# Altium footprint library NG_Components.PcbLib: 24 footprints (part 1 of 2)
Each footprint in its own frame and in the unit in brackets; x right, y up, seen from the top. Pads: shape width x height; smd on the part's side, far side on the other; paste and mask are expansions set on the pad; w line width, h text height; cw(c..) or ccw(c..) is an arc to the next point about the centre after c.
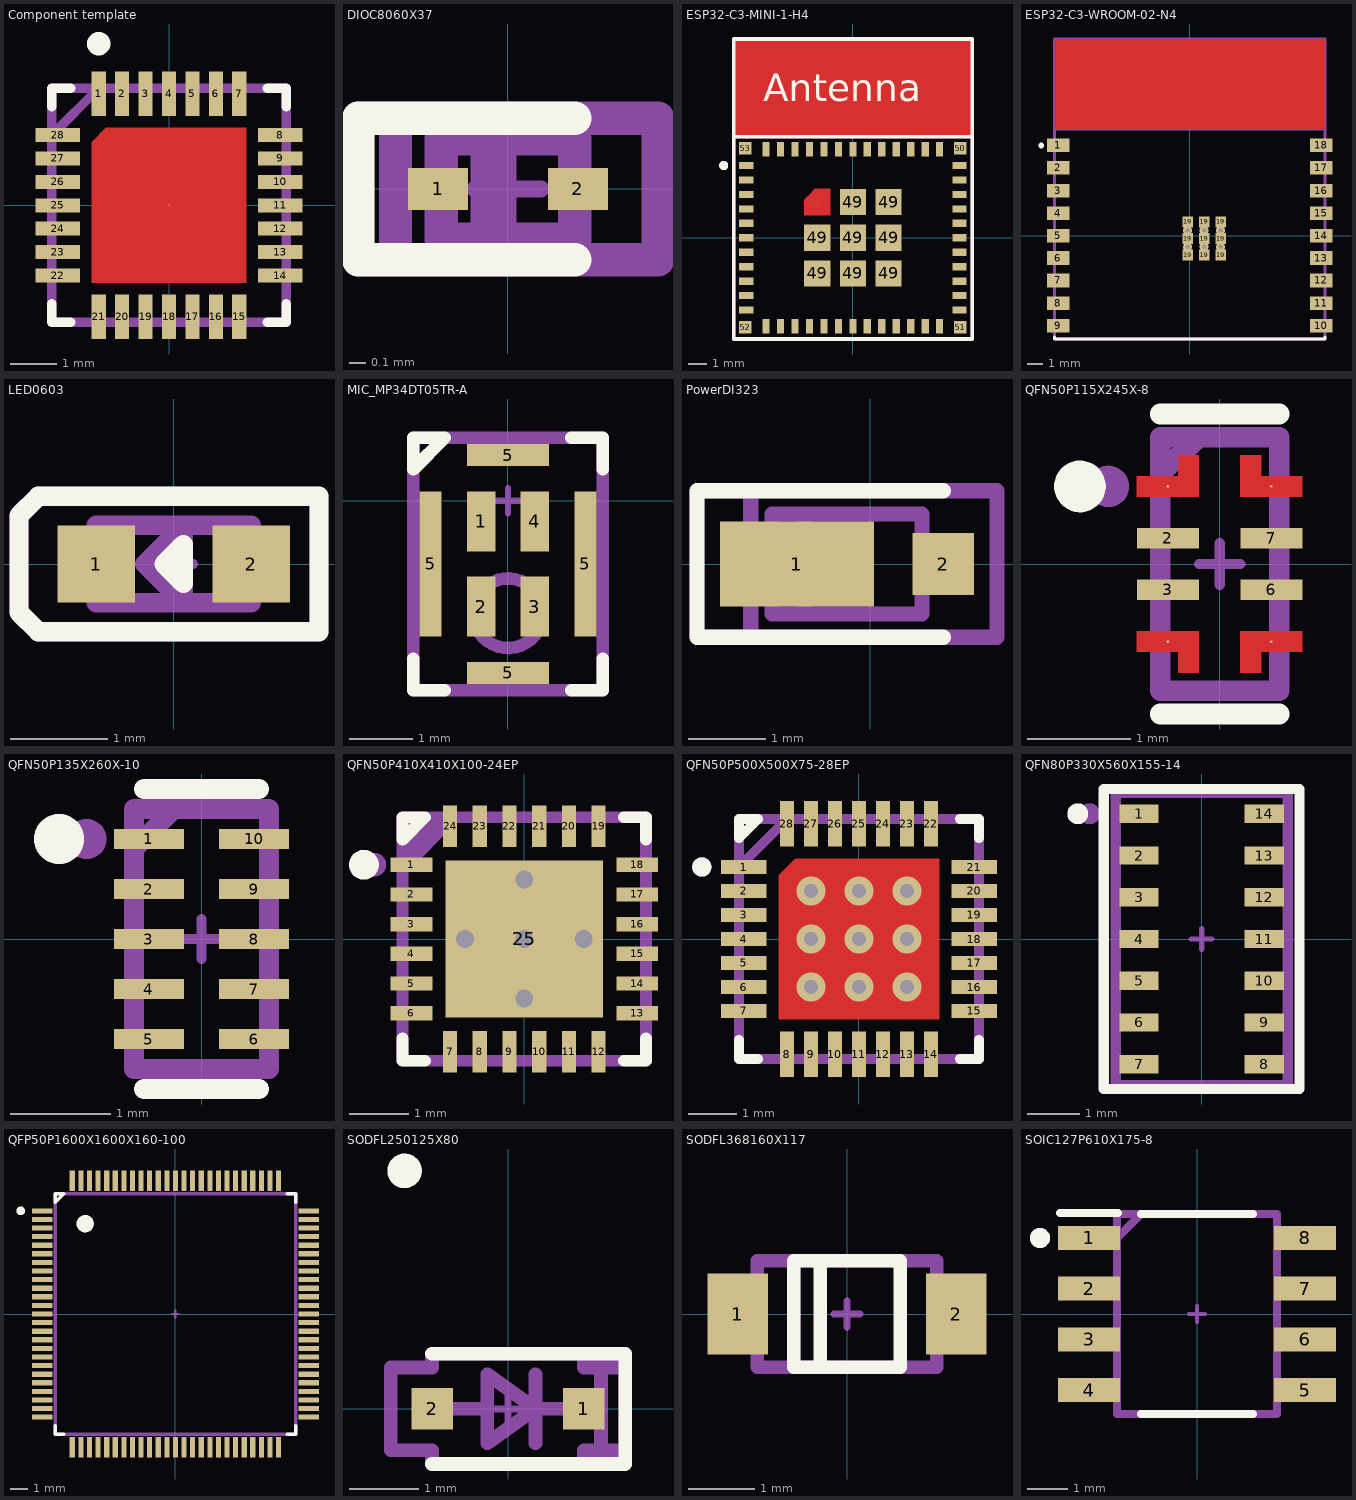
[diagram p0: the footprints below, top view; thin cyan lines are the x and y axes]

## Component template [mm] "Generic description"
height 0.8
pads (29):
  rect 0.3x0.95 smd: 1(-1.5,2.38) 2(-1,2.38) 3(-0.5,2.38) 4(0,2.38) 5(0.5,2.38) 6(1,2.38) 7(1.5,2.38) 15(1.5,-2.38) 16(1,-2.38) 17(0.5,-2.38) 18(0,-2.38) 19(-0.5,-2.38) 20(-1,-2.38) 21(-1.5,-2.38)
  rect 0.95x0.3 smd: 8(2.38,1.5) 9(2.38,1) 10(2.38,0.5) 11(2.38,0) 12(2.38,-0.5) 13(2.38,-1) 14(2.38,-1.5) 22(-2.38,-1.5) 23(-2.38,-1) 24(-2.38,-0.5) 25(-2.38,0) 26(-2.38,0.5) 27(-2.38,1) 28(-2.38,1.5)
  round 0.025 smd: 29(0,0)
Top Layer:
  region: -1.65,-1.65 -1.65,1.35 -1.35,1.65 1.65,1.65 1.65,-1.65
Top Overlay:
  circle w0.3: c-1.5,3.45 r0.1
  lines w0.2: -2.5,-2.1 -2.5,-2.5 -2.1,-2.5 ; -2.5,2.1 -2.5,2.5 -2.1,2.5 ; 2.1,-2.5 2.5,-2.5 2.5,-2.1 ; 2.1,2.5 2.5,2.5 2.5,2.1
Mechanical 4:
  text ".Designator" at 0.15,0.417 h0.8
Top Component Center:
  lines w0.1: -0.2,0 0.2,0 ; 0,-0.2 0,0.2
Top Component Outline:
  lines w0.2: -2.5,1.5 -1.5,2.5 ; -2.5,-2.5 2.5,-2.5 2.5,2.5 -2.5,2.5 -2.5,-2.5
3D body "21-0140L_T2855-8_MXM.step": height 0.81, standoff 0, extent -2.553,-2.553 2.553,2.553

## DIOC8060X37 [mm] "SOD-923"
height 0.8
pads (2):
  rect 0.36x0.25 smd mask+0.05: 1(-0.42,0) 2(0.42,0)
Top Overlay:
  lines w0.2: 0.4,-0.425 -0.4,-0.425 -0.9,-0.425 -0.9,0.425 -0.4,0.425 0.4,0.425
Mechanical 4:
  text ".Designator" at 0.15,0.417 h0.8
Top Component Center:
  lines w0.1: -0.2,0 0.2,0 ; 0,-0.2 0,0.2
Top Component Outline:
  lines w0.2: -0.125,-0.3 -0.125,0.3 ; -0.4,-0.3 -0.4,0.3 0.4,0.3 0.4,-0.3 -0.4,-0.3
Top Assembly:
  lines w0.2: -0.675,-0.425 -0.675,0.425 ; -0.9,-0.425 0,-0.425 0.9,-0.425 0.9,0.425 0,0.425 -0.9,0.425 -0.9,-0.425
  text ".Comment" at -3.639,-0.508 h1.02
3D body "ESD9B5.0ST5G.step": height 0.4, standoff 0, extent -0.5,-0.3 0.5,0.3

## ESP32-C3-MINI-1-H4 [mm] "Footprint for ESP32-C3-MINI-1-H4 modem"
height 2.55
pads (61):
  rect 0.8x0.4 smd mask+0.05: 1(-5.9,4) 2(-5.9,3.2) 3(-5.9,2.4) 4(-5.9,1.6) 5(-5.9,0.8) 6(-5.9,0) 7(-5.9,-0.8) 8(-5.9,-1.6) 9(-5.9,-2.4) 10(-5.9,-3.2) 11(-5.9,-4) 25(5.9,-4) 26(5.9,-3.2) 27(5.9,-2.4) 28(5.9,-1.6) 29(5.9,-0.8) 30(5.9,0) 31(5.9,0.8) 32(5.9,1.6) 33(5.9,2.4) 34(5.9,3.2) 35(5.9,4)
  rect 0.4x0.8 smd mask+0.05: 12(-4.8,-4.9) 13(-4,-4.9) 14(-3.2,-4.9) 15(-2.4,-4.9) 16(-1.6,-4.9) 17(-0.8,-4.9) 18(0,-4.9) 19(0.8,-4.9) 20(1.6,-4.9) 21(2.4,-4.9) 22(3.2,-4.9) 23(4,-4.9) 24(4.8,-4.9) 36(4.8,4.9) 37(4,4.9) 38(3.2,4.9) 39(2.4,4.9) 40(1.6,4.9) 41(0.8,4.9) 42(0,4.9) 43(-0.8,4.9) 44(-1.6,4.9) 45(-2.4,4.9) 46(-3.2,4.9) 47(-4,4.9) 48(-4.8,4.9)
  rect 1.45x1.45 smd mask+0.05: 49(-1.975,-1.975) 49(-1.975,0) 49(0,-1.975) 49(0,0) 49(0,1.975) 49(1.975,-1.975) 49(1.975,0) 49(1.975,1.975)
  round 0.025 smd mask+0.05: 49(-1.975,1.975)
  rect 0.7x0.7 smd mask+0.05: 50(5.95,4.95) 51(5.95,-4.95) 52(-5.95,-4.95) 53(-5.95,4.95)
Top Layer:
  pour cut-out: -6.6,5.6 6.6,5.6 6.6,11 -6.6,11
  region: -2.7,1.25 -2.7,2.1 -2.4,2.4 -2.1,2.7 -1.25,2.7 -1.25,1.25
Mid-Layer 1:
  pour cut-out: -6.6,5.6 6.6,5.6 6.6,11 -6.6,11
Mid-Layer 2:
  pour cut-out: -6.6,5.6 6.6,5.6 6.6,11 -6.6,11
Bottom Layer:
  pour cut-out: -6.6,5.6 6.6,5.6 6.6,11 -6.6,11
Top Overlay:
  circle w0.3: c-7.15,4 r0.1
  lines w0.2: -6.6,5.6 6.6,5.6 ; -6.6,5.6 -6.6,-5.6 6.6,-5.6 6.6,5.6 ; -6.6,5.6 -6.6,11 6.6,11 6.6,5.6
  text "Antenna" at -4.946,7.554 h1.52
Mechanical 4:
  text ".Designator" at 0.15,0.417 h0.8
Top Component Center:
  lines w0.1: -0.2,0 0.2,0 ; 0,-0.2 0,0.2
Top Component Outline:
  lines w0.2: -6.6,5.6 6.6,5.6 ; -6.6,-5.6 6.6,-5.6 6.6,11 -6.6,11 -6.6,-5.6
Top Assembly:
  lines w0.2: -6.6,5.6 6.6,5.6 ; -6.6,-5.6 6.6,-5.6 6.6,11 -6.6,11 -6.6,-5.6
  text "Antenna" at -3.376,7.617 h1.02
  text ".Comment" at -3.639,-0.508 h1.02
3D body "ESP32-C3-MINI-1 3D Model.STEP": height 2.4, standoff 0, extent -6.6,-5.6 6.6,11

## ESP32-C3-WROOM-02-N4 [mm] "Footprint for ESP32-C3-WROOM-02-N4 modem"
height 2.55
pads (27):
  rect 1.5x0.9 smd mask+0.05: 1(-8.75,6) 2(-8.75,4.5) 3(-8.75,3) 4(-8.75,1.5) 5(-8.75,0) 6(-8.75,-1.5) 7(-8.75,-3) 8(-8.75,-4.5) 9(-8.75,-6) 10(8.75,-6) 11(8.75,-4.5) 12(8.75,-3) 13(8.75,-1.5) 14(8.75,0) 15(8.75,1.5) 16(8.75,3) 17(8.75,4.5) 18(8.75,6)
  rect 0.7x0.7 smd mask+0.05: 19(-0.14,-1.3) 19(-0.14,-0.2) 19(-0.14,0.9) 19(0.96,-1.3) 19(0.96,-0.2) 19(0.96,0.9) 19(2.06,-1.3) 19(2.06,-0.2) 19(2.06,0.9)
via 0.96,0.35 diameter 0.6 hole 0.3
via 0.96,-0.75 diameter 0.6 hole 0.3
via 2.06,-0.75 diameter 0.6 hole 0.3
via -0.14,-0.75 diameter 0.6 hole 0.3
via -0.14,0.35 diameter 0.6 hole 0.3
via 2.06,0.35 diameter 0.6 hole 0.3
Top Layer:
  pour cut-out: -9,7.1 9,7.1 9,13.1 -9,13.1
Mid-Layer 1:
  pour cut-out: -9,7.1 9,7.1 9,13.1 -9,13.1
Mid-Layer 2:
  pour cut-out: -9,7.1 9,7.1 9,13.1 -9,13.1
Bottom Layer:
  pour cut-out: -9,7.1 9,7.1 9,13.1 -9,13.1
Top Overlay:
  circle w0.2: c-9.9,6 r0.1
  lines w0.2: -9,-6.75 -9,-6.9 9,-6.9 9,-6.75
Mechanical 4:
  text ".Designator" at 0.15,0.417 h0.8
Top Component Center:
  lines w0.1: -0.2,0 0.2,0 ; 0,-0.2 0,0.2
Top Component Outline:
  lines w0.2: -9,7.1 9,7.1 ; -9,-6.9 9,-6.9 9,13.1 -9,13.1 -9,-6.9
Top Assembly:
  lines w0.2: -9,7.1 9,7.1 ; -9,-6.9 9,-6.9 9,13.1 -9,13.1 -9,-6.9
  text "Antenna" at -3.126,9.117 h1.02
  text ".Comment" at -3.639,-0.508 h1.02
3D body "ESP32-C3-WROOM-02-N4.step": height 3.35, standoff 0, extent -9,-6.9 9,13.1

## LED0603 [mm] "0603 Footprint for Light Emitting diodes"
height 0.8
pads (2):
  rect 0.8x0.8 smd mask+0.05: 1(-0.8,0) 2(0.8,0)
Top Overlay:
  lines w0.2: -1.6,-0.5 -1.4,-0.7 1.5,-0.7 1.5,0.7 -1.4,0.7 -1.6,0.5 -1.6,-0.5 ; -0.1,0 0.1,0.2 0.1,-0.2 -0.1,0
Mechanical 4:
  text ".Designator" at 0.15,0.417 h0.8
Top Component Center:
  lines w0.1: -0.2,0 0.2,0 ; 0,-0.2 0,0.2
Top Component Outline:
  lines w0.2: -0.8,-0.4 -0.8,-0.2 ccw(c-0.8,0) -0.8,0.2 -0.8,0.4 0.8,0.4 0.8,0.2 ccw(c0.8,0) 0.8,-0.2 0.8,-0.4 -0.8,-0.4 ; -0.3,0 0.1,-0.4 0.1,0.4 -0.3,0
Top Assembly:
  lines w0.2: -1.6,-0.5 -1.4,-0.7 1.5,-0.7 1.5,0.7 -1.4,0.7 -1.6,0.5 -1.6,-0.5
  text ".Comment" at -3.639,-0.508 h1.02
3D body "STP_150060xS75000 (rev1).stp": height 0.7, standoff 0, extent -0.8,-0.4 0.8,0.4

## MIC_MP34DT05TR-A [mm] "HCLGA 4LD  (3 x 4 x 1 mm)"
height 1
pads (8):
  rect 0.45x0.95 smd mask+0.05: 1(-0.425,-0.325) 2(-0.425,-1.675) 3(0.425,-1.675) 4(0.425,-0.325)
  rect 0.35x2.3 smd mask+0.05: 5(-1.225,-1) 5(1.225,-1)
  rect 1.3x0.35 smd mask+0.05: 5(0,-2.725) 5(0,0.725)
Top Overlay:
  lines w0.2: -1.5,-2.5 -1.5,-3 -1,-3 ; 1,-3 1.5,-3 1.5,-2.5 ; 1,1 1.5,1 1.5,0.5 ; -1,1 -1.5,0.5 -1.5,1 -1,1 ; -1,1 -1,1
Mechanical 4:
  text ".Designator" at 0.15,0.417 h0.8
Top Component Center:
  lines w0.1: -0.2,0 0.2,0 ; 0,-0.2 0,0.2
Top Component Outline:
  circle w0.2: c0,-1.78 r0.55
  lines w0.2: -1.5,0.5 -1,1 ; -1,1 -1,1 ; -1.5,-3 1.5,-3 1.5,1 -1.5,1 -1.5,-3 ; 1,1 1,1 ; 1.5,0.5 1.5,0.5
Top Assembly:
  lines w0.2: -1.5,0.5 -1,1 ; -1.5,-3 1.5,-3 1.5,1 -1.5,1 -1.5,-3
  text ".Comment" at -2.214,-3.933 h1.02
3D body "MP34DT05-A.stp": height 1, standoff 0, extent -1.5,-3 1.5,1

## PowerDI323 [mm] "PowerDI323"
height 0.8
pads (2):
  rect 2x1.1 smd paste-0.025 mask+0.05: 1(-0.95,0)
  rect 0.8x0.8 smd mask+0.05: 2(0.95,0)
Top Overlay:
  lines w0.2: 0.95,-0.95 -2.25,-0.95 -2.25,0.95 0.95,0.95
Mechanical 4:
  text ".Designator" at 0.15,0.417 h0.8
Top Component Center:
  lines w0.1: -0.5,0 -0.1,0 ; -0.3,-0.2 -0.3,0.2
Top Component Outline:
  lines w0.2: -0.85,-0.65 -0.85,0.65 ; -1.275,-0.65 0.675,-0.65 0.675,0.65 -1.275,0.65 -1.275,-0.65
Top Assembly:
  lines w0.2: -1.55,-0.95 -1.55,0.95 ; -2.25,-0.95 0,-0.95 1.65,-0.95 1.65,0.95 0,0.95 -2.25,0.95 -2.25,-0.95
  text ".Comment" at -3.639,-0.508 h1.02
3D body "PowerDI323_DIO.step": height 0.65, standoff 0, extent -1.55,-0.95 0.95,0.95

## QFN50P115X245X-8 [mm] "Quad Flat No-lead, 50 mm pitch, 115 mm W, 245 mm L, 8 leads"
height 0.45
pads (8):
  round 0.025 smd mask+0.05: 1(-0.5,0.75) 4(-0.5,-0.75) 5(0.5,-0.75) 8(0.5,0.75)
  rect 0.6x0.2 smd mask+0.05: 2(-0.5,0.25) 3(-0.5,-0.25) 6(0.5,-0.25) 7(0.5,0.25)
Top Layer:
  region: -0.8,0.65 -0.8,0.85 -0.4,0.85 -0.4,1.05 -0.2,1.05 -0.2,0.85 -0.2,0.65
  region: -0.8,-0.65 -0.8,-0.85 -0.4,-0.85 -0.4,-1.05 -0.2,-1.05 -0.2,-0.85 -0.2,-0.65
  region: 0.8,0.65 0.8,0.85 0.4,0.85 0.4,1.05 0.2,1.05 0.2,0.85 0.2,0.65
  region: 0.8,-0.65 0.8,-0.85 0.4,-0.85 0.4,-1.05 0.2,-1.05 0.2,-0.85 0.2,-0.65
Top Overlay:
  circle w0.3: c-1.35,0.75 r0.1
  lines w0.2: -0.575,-1.45 0.575,-1.45 ; -0.575,1.45 0.575,1.45
Mechanical 4:
  text ".Designator" at 0.15,0.417 h0.8
Top Component Center:
  lines w0.1: -0.2,0 0.2,0 ; 0,-0.2 0,0.2
Top Component Outline:
  lines w0.2: -0.575,-1.225 -0.575,1.225 0.575,1.225 0.575,-1.225 -0.575,-1.225
Top Assembly:
  circle w0.2: c-1.075,0.75 r0.1
  lines w0.2: -0.575,0.875 -0.2,1.225 ; -0.575,-1.225 0.575,-1.225 0.575,1.225 -0.575,1.225 -0.575,-1.225
  text ".Comment" at -2.214,-2.933 h1.02
3D body "ECMF02-4CMX8.stp": height 0.5, standoff -0.02, extent -0.6,-1.25 0.6,1.25

## QFN50P135X260X-10 [mm] "Quad Flat No-lead, 50 mm pitch, 135 mm W, 260 mm L, 10 leads"
height 0.5
pads (10):
  rect 0.7x0.2 smd mask+0.05: 1(-0.525,1) 2(-0.525,0.5) 3(-0.525,0) 4(-0.525,-0.5) 5(-0.525,-1) 6(0.525,-1) 7(0.525,-0.5) 8(0.525,0) 9(0.525,0.5) 10(0.525,1)
Top Overlay:
  circle w0.3: c-1.425,1 r0.1
  lines w0.2: -0.575,-1.5 0.575,-1.5 ; -0.575,1.5 0.575,1.5
Mechanical 4:
  text ".Designator" at 0.15,0.417 h0.8
Top Component Center:
  lines w0.1: -0.2,0 0.2,0 ; 0,-0.2 0,0.2
Top Component Outline:
  lines w0.2: -0.675,-1.3 0.675,-1.3 0.675,1.3 -0.675,1.3 -0.675,-1.3
Top Assembly:
  circle w0.2: c-1.15,1 r0.1
  lines w0.2: -0.675,0.9 -0.275,1.3 ; -0.675,-1.3 -0.675,1.3 0.675,1.3 0.675,-1.3 -0.675,-1.3
  text ".Comment" at -2.214,-2.933 h1.02
3D body "ECMF04-4HSWM10.stp": height 0.51, standoff 0, extent -0.698,-1.321 0.698,1.321

## QFN50P410X410X100-24EP [mm] "Generic description"
height 0.8
pads (25):
  rect 0.7x0.24 smd mask+0.05: 1(-1.9,1.25) 2(-1.9,0.75) 3(-1.9,0.25) 4(-1.9,-0.25) 5(-1.9,-0.75) 6(-1.9,-1.25) 13(1.9,-1.25) 14(1.9,-0.75) 15(1.9,-0.25) 16(1.9,0.25) 17(1.9,0.75) 18(1.9,1.25)
  rect 0.24x0.7 smd mask+0.05: 7(-1.25,-1.9) 8(-0.75,-1.9) 9(-0.25,-1.9) 10(0.25,-1.9) 11(0.75,-1.9) 12(1.25,-1.9) 19(1.25,1.9) 20(0.75,1.9) 21(0.25,1.9) 22(-0.25,1.9) 23(-0.75,1.9) 24(-1.25,1.9)
  rect 2.65x2.65 smd paste-2539.97 mask+0.05: 25(0,0)
via 0,0 diameter 0.6 hole 0.3
via 1,0 diameter 0.6 hole 0.3
via 0,1 diameter 0.6 hole 0.3
via -1,0 diameter 0.6 hole 0.3
via 0,-1 diameter 0.6 hole 0.3
Top Overlay:
  circle w0.3: c-2.7,1.25 r0.1
  lines w0.2: -2.05,-1.675 -2.05,-2.05 -1.675,-2.05 ; 1.675,-2.05 2.05,-2.05 2.05,-1.675 ; 1.675,2.05 2.05,2.05 2.05,1.675 ; -2.05,1.675 -2.05,2.05 -1.675,2.05 -2.05,1.675
Top Paste:
  region: -0.1,-0.1 -1.2,-0.1 -1.2,-1.2 -0.1,-1.2
  region: 0.1,-0.1 0.1,-1.2 1.2,-1.2 1.2,-0.1
  region: -0.1,0.1 -0.1,1.2 -1.2,1.2 -1.2,0.1
  region: 0.1,0.1 1.2,0.1 1.2,1.2 0.1,1.2
  region: 0,0 1.2,0
Mechanical 4:
  text ".Designator" at 0.15,0.417 h0.8
Top Component Center:
  lines w0.1: -0.2,0 0.2,0 ; 0,-0.2 0,0.2
Top Component Outline:
  region: -2.05,2.05 -2.05,1.05 -1.05,2.05
  lines w0.2: -2.05,-2.05 2.05,-2.05 2.05,2.05 -2.05,2.05 -2.05,-2.05
Top Assembly:
  circle w0.2: c-2.525,1.25 r0.1
  lines w0.2: -2.05,1.25 -1.25,2.05 ; -2.05,-2.05 -2.05,2.05 2.05,2.05 2.05,-2.05 -2.05,-2.05
  text ".Comment" at -2.214,-2.933 h1.02
3D body "BQ24166RGER.step": height 1, standoff 0, extent -2,-2 2,2

## QFN50P500X500X75-28EP [mm] "28 pin flat no-leads package with exposed pad"
height 0.8
pads (29):
  rect 0.95x0.3 smd paste-0.025 mask+0.05: 1(-2.4,1.5) 2(-2.4,1) 3(-2.4,0.5) 4(-2.4,0) 5(-2.4,-0.5) 6(-2.4,-1) 7(-2.4,-1.5) 15(2.4,-1.5) 16(2.4,-1) 17(2.4,-0.5) 18(2.4,0) 19(2.4,0.5) 20(2.4,1) 21(2.4,1.5)
  rect 0.3x0.95 smd paste-0.025 mask+0.05: 8(-1.5,-2.4) 9(-1,-2.4) 10(-0.5,-2.4) 11(0,-2.4) 12(0.5,-2.4) 13(1,-2.4) 14(1.5,-2.4) 22(1.5,2.4) 23(1,2.4) 24(0.5,2.4) 25(0,2.4) 26(-0.5,2.4) 27(-1,2.4) 28(-1.5,2.4)
  round 0.025 smd paste-2539.97 mask+0.05: 29(0,0)
via 0,0 diameter 0.6 hole 0.3
via 0,1 diameter 0.6 hole 0.3
via -1,0 diameter 0.6 hole 0.3
via 1,0 diameter 0.6 hole 0.3
via -1,-1 diameter 0.6 hole 0.3
via 1,-1 diameter 0.6 hole 0.3
via -1,1 diameter 0.6 hole 0.3
via 1,1 diameter 0.6 hole 0.3
via 0,-1 diameter 0.6 hole 0.3
Top Layer:
  region: -1.325,1.675 -1.675,1.325 -1.675,-1.675 1.675,-1.675 1.675,1.675
Top Overlay:
  circle w0.2: c-3.275,1.5 r0.1
  lines w0.2: -2.5,-2.1 -2.5,-2.5 -2.1,-2.5 ; 2.1,-2.5 2.5,-2.5 2.5,-2.1 ; 2.1,2.5 2.5,2.5 2.5,2.1 ; -2.5,2.1 -2.1,2.5 -2.5,2.5 -2.5,2.1
Top Paste:
  region: -0.025,0.025 -0.025,1.625 -1.3,1.625 -1.475,1.45 -1.625,1.3 -1.625,0.025
  region: 1.625,0.025 1.625,1.625 0.025,1.625 0.025,0.025
  region: 1.625,-1.625 1.625,-0.025 0.025,-0.025 0.025,-1.625
  region: -0.025,-1.625 -0.025,-0.025 -1.625,-0.025 -1.625,-1.625
Mechanical 4:
  text ".Designator" at 0.15,0.417 h0.8
Top Component Center:
  lines w0.1: -0.2,0 0.2,0 ; 0,-0.2 0,0.2
Top Component Outline:
  lines w0.2: -2.5,1.5 -1.5,2.5 ; -2.5,-2.5 2.5,-2.5 2.5,2.5 -2.5,2.5 -2.5,-2.5
Top Assembly:
  circle w0.2: c-3.275,1.5 r0.1
  lines w0.2: -2.5,1.5 -1.5,2.5 ; -2.5,-2.5 2.5,-2.5 2.5,2.5 -2.5,2.5 -2.5,-2.5
  text ".Comment" at -1.308,-1.732 h0.6
3D body "21-0140L_T2855-8_MXM.step": height 0.81, standoff 0, extent -2.553,-2.553 2.553,2.553

## QFN80P330X560X155-14 [mm] "Generic description"
height 0.8
pads (14):
  rect 0.75x0.35 smd mask+0.05: 1(-1.2,2.4) 2(-1.2,1.6) 3(-1.2,0.8) 4(-1.2,0) 5(-1.2,-0.8) 6(-1.2,-1.6) 7(-1.2,-2.4) 8(1.2,-2.4) 9(1.2,-1.6) 10(1.2,-0.8) 11(1.2,0) 12(1.2,0.8) 13(1.2,1.6) 14(1.2,2.4)
Top Overlay:
  circle w0.2: c-2.375,2.4 r0.1
  lines w0.2: -1.875,-2.875 -1.875,2.875 1.875,2.875 1.875,-2.875 -1.875,-2.875
Mechanical 4:
  text ".Designator" at 0.15,0.417 h0.8
Top Component Center:
  lines w0.1: -0.2,0 0.2,0 ; 0,-0.2 0,0.2
Top Component Outline:
  circle w0.2: c-2.15,2.4 r0.1
  lines w0.2: -1.65,-2.8 1.65,-2.8 1.65,2.8 -1.65,2.8 -1.65,-2.8
Top Assembly:
  circle w0.2: c-2.15,2.4 r0.1
  lines w0.2: -1.65,-2.8 1.65,-2.8 1.65,2.8 -1.65,2.8 -1.65,-2.8
  text ".Comment" at 0.3,-2.149 h0.6
3D body "MAX30101EFD.step": height 1.65, standoff 0, extent -1.65,-2.8 1.65,2.8

## QFP50P1600X1600X160-100 [mm] "Low-profile quad flat package, 100 pins"
height 1.6
pads (100):
  rect 1.2x0.3 smd mask+0.05: 1(-7.75,6) 2(-7.75,5.5) 3(-7.75,5) 4(-7.75,4.5) 5(-7.75,4) 6(-7.75,3.5) 7(-7.75,3) 8(-7.75,2.5) 9(-7.75,2) 10(-7.75,1.5) 11(-7.75,1) 12(-7.75,0.5) 13(-7.75,0) 14(-7.75,-0.5) 15(-7.75,-1) 16(-7.75,-1.5) 17(-7.75,-2) 18(-7.75,-2.5) 19(-7.75,-3) 20(-7.75,-3.5) 21(-7.75,-4) 22(-7.75,-4.5) 23(-7.75,-5) 24(-7.75,-5.5) 25(-7.75,-6) 51(7.75,-6) 52(7.75,-5.5) 53(7.75,-5) 54(7.75,-4.5) 55(7.75,-4) 56(7.75,-3.5) 57(7.75,-3) 58(7.75,-2.5) 59(7.75,-2) 60(7.75,-1.5) 61(7.75,-1) 62(7.75,-0.5) 63(7.75,0) 64(7.75,0.5) 65(7.75,1) 66(7.75,1.5) 67(7.75,2) 68(7.75,2.5) 69(7.75,3) 70(7.75,3.5) 71(7.75,4) 72(7.75,4.5) 73(7.75,5) 74(7.75,5.5) 75(7.75,6)
  rect 0.3x1.2 smd mask+0.05: 26(-6,-7.75) 27(-5.5,-7.75) 28(-5,-7.75) 29(-4.5,-7.75) 30(-4,-7.75) 31(-3.5,-7.75) 32(-3,-7.75) 33(-2.5,-7.75) 34(-2,-7.75) 35(-1.5,-7.75) 36(-1,-7.75) 37(-0.5,-7.75) 38(0,-7.75) 39(0.5,-7.75) 40(1,-7.75) 41(1.5,-7.75) 42(2,-7.75) 43(2.5,-7.75) 44(3,-7.75) 45(3.5,-7.75) 46(4,-7.75) 47(4.5,-7.75) 48(5,-7.75) 49(5.5,-7.75) 50(6,-7.75) 76(6,7.75) 77(5.5,7.75) 78(5,7.75) 79(4.5,7.75) 80(4,7.75) 81(3.5,7.75) 82(3,7.75) 83(2.5,7.75) 84(2,7.75) 85(1.5,7.75) 86(1,7.75) 87(0.5,7.75) 88(0,7.75) 89(-0.5,7.75) 90(-1,7.75) 91(-1.5,7.75) 92(-2,7.75) 93(-2.5,7.75) 94(-3,7.75) 95(-3.5,7.75) 96(-4,7.75) 97(-4.5,7.75) 98(-5,7.75) 99(-5.5,7.75) 100(-6,7.75)
Top Overlay:
  circle w0.5: c-5.25,5.25 r0.25
  circle w0.3: c-9,6 r0.1
  lines w0.2: -7,-6.5 -7,-7 -6.5,-7 ; 6.5,-7 7,-7 7,-6.5 ; 6.5,7 7,7 7,6.5 ; -7,6.5 -7,7 -6.5,7 -7,6.5
Mechanical 4:
  text ".Designator" at 0.15,0.417 h0.8
Top Component Center:
  lines w0.1: -0.2,0 0.2,0 ; 0,-0.2 0,0.2
Top Component Outline:
  circle w0.5: c-5.25,5.25 r0.25
  lines w0.2: -7,6.5 -6.5,7 ; -7,-7 7,-7 7,7 -7,7 -7,-7
Top Assembly:
  circle w0.2: c-5.25,5.25 r0.4
  lines w0.2: -7,-7 7,-7 7,7 -6.5,7 -7,6.5 -7,-7
  text ".Comment" at -3.639,-0.508 h1.02
3D body "LQFP100_STM.step": height 1.6, standoff 0, extent -8.103,-8.103 8.103,8.103

## SODFL250125X80 [mm] "SOD323F"
height 0.8
pads (2):
  rect 0.6x0.6 smd paste-0.025 mask+0.05: 1(1.1,0) 2(-1.1,0)
Top Overlay:
  circle w0.3: c-1.5,3.45 r0.1
  lines w0.2: -1.1,-0.8 1.7,-0.8 1.7,0.8 -1.1,0.8
Mechanical 4:
  text ".Designator" at 0.15,0.417 h0.8
Top Component Center:
  lines w0.1: -0.2,0 0.2,0 ; 0,-0.2 0,0.2
Top Component Outline:
  lines w0.2: -1.3,0 -0.3,0 ; 0.4,-0.5 0.4,0.5 ; 1.3,0 0.4,0 ; 0.4,0 -0.3,-0.5 -0.3,0.5 0.4,0 ; -1.7,-0.6 -1.7,0.6 -1.1,0.6 -1.1,0.8 1.1,0.8 1.1,0.6 1.7,0.6 1.7,-0.6 1.1,-0.6 1.1,-0.8 -1.1,-0.8 -1.1,-0.6 -1.7,-0.6
Top Assembly:
  lines w0.2: 1.35,-0.8 1.35,0.8 ; -1.7,-0.6 -1.1,-0.6 -1.1,-0.8 1.7,-0.8 1.7,0.8 -1.1,0.8 -1.1,0.6 -1.7,0.6 -1.7,-0.6
  text ".Comment" at -3.639,-0.508 h1.02
3D body "SOT323F.step": height 0.72, standoff 0.01, extent -1.25,-0.6 1.25,0.65

## SODFL368160X117 [mm] "SOD-123-3"
height 1.17
pads (2):
  rect 0.91x1.22 smd paste-0.025 mask+0.05: 1(-1.637,0) 2(1.637,0)
Top Overlay:
  lines w0.2: -0.4,-0.8 -0.4,0.8 ; -0.8,-0.8 -0.8,0.8 0.8,0.8 0.8,-0.8 -0.8,-0.8
Mechanical 4:
  text ".Designator" at -3.999,-0.267 h0.8
Top Component Center:
  lines w0.1: -0.2,0 0.2,0 ; 0,-0.2 0,0.2
Top Component Outline:
  lines w0.2: -0.8,-0.8 -0.8,0.8 ; -1.345,-0.8 1.345,-0.8 1.345,0.8 -1.345,0.8 -1.345,-0.8
Top Assembly:
  lines w0.2: -0.8,-0.8 -0.8,0.8 ; -1.345,-0.8 1.345,-0.8 1.345,0.8 -1.345,0.8 -1.345,-0.8
  text ".Comment" at -3.639,-0.508 h1.02
3D body "MMSZ5240BT1G.step": height 1.35, standoff 0, extent -1.84,-0.8 1.84,0.8

## SOIC127P610X175-8 [mm] "Generic description"
height 1.75
pads (8):
  rect 1.55x0.6 smd mask+0.05: 1(-2.7,1.905) 2(-2.7,0.635) 3(-2.7,-0.635) 4(-2.7,-1.905) 5(2.7,-1.905) 6(2.7,-0.635) 7(2.7,0.635) 8(2.7,1.905)
Top Overlay:
  circle w0.3: c-3.925,1.9 r0.1
  lines w0.2: -3.425,2.525 -1.975,2.525 ; -1.4,-2.5 1.4,-2.5 ; -1.4,2.5 1.4,2.5
Mechanical 4:
  text ".Designator" at 0.15,0.417 h0.8
Top Component Center:
  lines w0.1: -0.2,0 0.2,0 ; 0,-0.2 0,0.2
Top Component Outline:
  circle w0.3: c-3.925,1.9 r0.1
  lines w0.2: -3.425,2.525 -1.975,2.525 ; -2,1.9 -1.4,2.5 ; -2,-2.5 -2,2.5 2,2.5 2,-2.5 -2,-2.5
Top Assembly:
  circle w0.2: c-2.475,1.9 r0.1
  lines w0.2: -2,1.9 -2,2.5 -1.4,2.5 ; -2,1.9 -2,-2.5 2,-2.5 2,2.5 -1.4,2.5 ; -2,1.9 -1.4,2.5
  text ".Comment" at -2.214,-2.933 h1.02
3D body "U_SO8_NXP.step": height 1.76, standoff 0, extent -3.099,-2.54 3.099,2.54